# Altium schematic symbol library Crystal_EFR.SchLib: 10 symbols
Pins are listed as number, name and electrical type; pins without a type are passive.

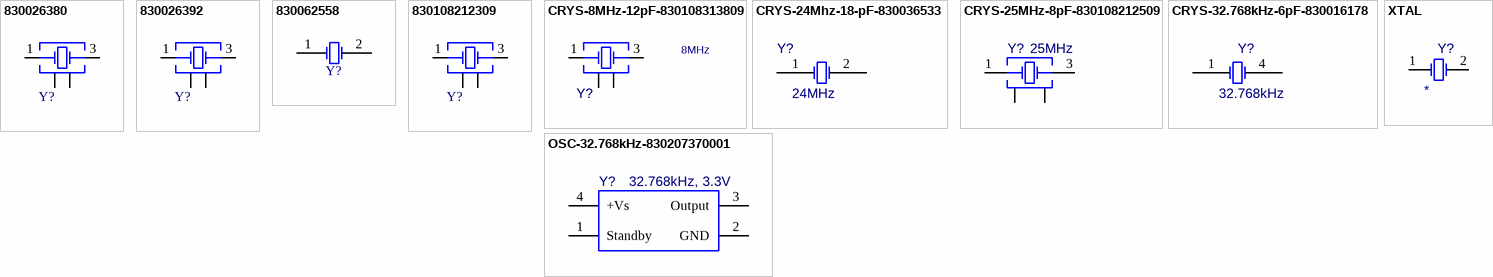
[diagram p0: symbols 830026380 to XTAL]

## 830026380
designator Y?, comment 8MHz  (value not drawn)
WE-XTAL Quartz Crystal, SMT, 12SMX, 8MHz, +/-30ppm; Manufacturer P/N: 830026380; Manufacturer: Wurth Elektronik; Frequency Stability: +/-50ppm; Load Capacitance: 16pF; ComponentLink1Description: Website Link; ComponentLink1URL: https://www.we-online.com/redexpert/article/830026380?ad; ComponentLink2Description: Datasheet Link; ComponentLink2URL: https://www.we-online.com/redexpert/spec/830026380?ad; Category: Crystals; Match Code: WE-XTAL; Mount: Surface Mount; Operating Temperature Max: 70°C; Operating Temperature Min: -20°C; Packaging: Tape and Reel; Case/Size Code: 12SMX; Length: 7.2mm; Width: 5.2mm; Height: 1.2mm; Frequency: 8MHz; Frequency Tolerance: +/-30ppm
footprint WE-XTAL_12SMX
pins: 1 Crystal, 2 GND & Lid, 3 Crystal, 4 GND & Lid

## 830026392
designator Y?, comment 16MHz  (value not drawn)
WE-XTAL Quartz Crystal, SMT, 12SMX, 16MHz, +/-30ppm; Manufacturer P/N: 830026392; Manufacturer: Wurth Elektronik; Frequency Stability: +/-50ppm; Load Capacitance: 16pF; ComponentLink1Description: Website Link; ComponentLink1URL: https://www.we-online.com/redexpert/article/830026392?ad; ComponentLink2Description: Datasheet Link; ComponentLink2URL: https://www.we-online.com/redexpert/spec/830026392?ad; Category: Crystals; Match Code: WE-XTAL; Mount: Surface Mount; Operating Temperature Max: 70°C; Operating Temperature Min: -20°C; Packaging: Tape and Reel; Case/Size Code: 12SMX; Length: 7.2mm; Width: 5.2mm; Height: 1.2mm; Frequency: 16MHz; Frequency Tolerance: +/-30ppm
footprint WE-XTAL_12SMX
pins: 1 Crystal, 2 GND & Lid, 3 Crystal, 4 GND & Lid

## 830062558
designator Y?, comment 32.768kHz  (value not drawn)
WE-XTAL Watch Crystal, SMT, IQXC-25, 32.768kHz, +/-10ppm; Manufacturer P/N: 830062558; Manufacturer: Wurth Elektronik; Load Capacitance: 9pF; ComponentLink1Description: Website Link; ComponentLink1URL: https://www.we-online.com/redexpert/article/830062558?ad; ComponentLink2Description: Datasheet Link; ComponentLink2URL: https://www.we-online.com/redexpert/spec/830062558?ad; Category: Crystals; Match Code: WE-XTAL; Mount: Surface Mount; Operating Temperature Max: 85°C; Operating Temperature Min: -40°C; Packaging: Tape and Reel; Case/Size Code: IQXC-25; Length: 2mm; Width: 1.2mm; Height: 0.6mm; Frequency: 32.768kHz; Frequency Tolerance: +/-10ppm
footprint WE-XTAL_IQXC-25
pins: 1 OSC1, 2 OSC2

## 830108212309
designator Y?, comment 24MHz  (value not drawn)
WE-XTAL Quartz Crystal, SMT, IQXC-42, 24MHz, +/-10ppm; Manufacturer P/N: 830108212309; Manufacturer: Wurth Elektronik; Frequency Stability: +/-15ppm; Load Capacitance: 8pF; ComponentLink1Description: Website Link; ComponentLink1URL: https://www.we-online.com/redexpert/article/830108212309?ad; ComponentLink2Description: Datasheet Link; ComponentLink2URL: https://www.we-online.com/redexpert/spec/830108212309?ad; Category: Crystals; Match Code: WE-XTAL; Mount: Surface Mount; Operating Temperature Max: 85°C; Operating Temperature Min: -40°C; Packaging: Tape and Reel; Case/Size Code: IQXC-42; Length: 2mm; Width: 1.6mm; Height: 0.5mm; Frequency: 24MHz; Frequency Tolerance: +/-10ppm
footprint WE-XTAL_IQXC-42 new (Quartz Crystal, size IQXC-42, body 2x1.6mm)
pins: 1 Crystal, 2 GND, 3 Crystal, 4 GND

## CRYS-8MHz-12pF-830108313809
designator Y?, comment 8MHz
WE-XTAL Quartz Crystal, SMT, CFPX-180, 8MHz, +/-30ppm; Manufacturer P/N: 830108313809; Manufacturer: Wurth Elektronik; Frequency Stability: +/-50ppm; Load Capacitance: 12pF; ComponentLink1Description: Website Link; ComponentLink1URL: https://www.we-online.com/redexpert/article/830108313809?ad; ComponentLink2Description: Datasheet Link; ComponentLink2URL: https://www.we-online.com/redexpert/spec/830108313809?ad; Category: Crystals; Match Code: WE-XTAL; Mounting Technology: SMT; Operating Temperature Max: 85°C; Operating Temperature Min: -40°C; Packaging: Tape and Reel; Case/Size Code: CFPX-180; Length: 3.4mm; Width: 2.7mm; Height: 0.8mm; Frequency: 8MHz; Frequency Tolerance: +/-30ppm
footprint WE-XTAL_CFPX-180
pins: 1 Crystal, 2 GND&Lid, 3 Crystal, 4 GND&Lid

## CRYS-24Mhz-18-pF-830036533
designator Y?, comment 24MHz
WE-XTAL Quartz Crystal, SMT, HC49/4HSMX, 24MHz, +/-30ppm; PartNumber: 830036533; Manufacturer: Wurth Elektronik; Frequency Stability: +/-50ppm; Load Capacitance: 18pF; ComponentLink1Description: Manufacturer; ComponentLink1URL: https://www.we-online.com/katalog/en/WE-XTAL#830036533; ComponentLink2Description: Datasheet; ComponentLink2URL: https://katalog.we-online.com/pbs/datasheet/830036533.pdf; Operating Temperature: -40 to +85degC; Packaging: Tape and Reel; Published Date: July 2020; Size: HC49/4HSMX; Frequency: 24MHz; Frequency Tolerance: +/-30ppm; Mounting Technology: SMT; Supplier 1: Mouser; Supplier 2: DigiKey; Supplier 3: Mouser; Supplier 4: DigiKey; Supplier Part Number 1: 710-830036533; Supplier Part Number 2: 1923-830036533CT-ND; Supplier Part Number 3: 710-830036533; Supplier Part Number 4: 1923-830036533CT-ND
footprint WE-XTAL_HC49/4HSMX
pins: 1 OSC1, 2 OSC2

## CRYS-25MHz-8pF-830108212509
designator Y?, comment 25MHz
WE-XTAL Quartz Crystal, SMT, IQXC-42, 25MHz, +/-10ppm; PartNumber: 830108212509; Manufacturer: Wurth Elektronik; Frequency Stability: +/-15ppm; Load Capacitance: 8pF; ComponentLink1Description: Manufacturer; ComponentLink1URL: https://www.we-online.com/catalog/en/WE-XTAL?sq=830108212509#/articles/IQXC-42; ComponentLink2Description: Datasheet; ComponentLink2URL: https://katalog.we-online.com/pbs/datasheet/830108212509.pdf; Operating Temperature: -40 to +85degC; Packaging: Tape and Reel; Published Date: July 2020; Size: IQXC-42; Frequency: 25MHz; Frequency Tolerance: +/-10ppm; Mounting Technology: SMT
footprint WE-XTAL_IQXC-42
pins: 1 Crystal, 2 GND, 3 Crystal, 4 GND

## CRYS-32.768kHz-6pF-830016178
designator Y?, comment 32.768kHz
WE-XTAL Watch Crystal, SMT, 85SMX, 32.768kHz, +/-20ppm; PartNumber: 830016178; Manufacturer: Wurth Elektronik; Load Capacitance: 6pF; ComponentLink1Description: Manufacturer; ComponentLink1URL: https://www.we-online.com/katalog/en/WE-XTAL_WATCHCRYSTAL#830016178; ComponentLink2Description: Datasheet; ComponentLink2URL: https://katalog.we-online.com/pbs/datasheet/830016178.pdf; Operating Temperature: -40 to +85degC; Packaging: Tape and Reel; Published Date: July 2020; Size: 85SMX; Frequency Stability: -; Frequency: 32.768kHz; Frequency Tolerance: +/-20ppm; Mounting Technology: SMT
footprint WE-XTAL_85SMX
pins: 1 Crystal, 4 Crystal

## OSC-32.768kHz-830207370001
designator Y?, comment 32.768kHz, 3.3V
WE-SPXO Simple Packaged Quartz Oscillator, SMT, IQXO-402, 32.768kHz, 3.3V; Manufacturer: Wurth Elektronik; PartNumber: 830207370001; Frequency Stability: +/-30ppm; ComponentLink1URL: https://www.we-online.com/catalog/en/WE-SPXO?sq=830207370001#/articles/WE-SPXO_IQXO-402; ComponentLink2URL: https://www.we-online.com/catalog/datasheet/830207370001.pdf; Supply Voltage: 3.3V; Size: IQXO-402; Packaging: Tape and Reel; Operating Temperature: -40 to +85degC; Mounting Technology: SMT; Published Date: November 2020; ComponentLink1Description: Manufacturer; Frequency: 32.768kHz; ComponentLink2Description: Datasheet
footprint WE-SPXO_IQXO-402
pins: 1 Standby, 2 GND, 3 Output, 4 +Vs

## XTAL
designator Y?
Crystal Oscillator; PartNumber: *; LoadCap: *; Manufacturer: *; Frequence: *
simulation model XTAL (Spice Subcircuit)
footprint XT49S (Vishay Crystal)
footprint WE-XTAL_HC49/4HSMX (Quartz Crystal, size HC49/4HSMX, body 11.4x4.9mm)
pins: 1 OSC1, 2 OSC2